# EAGLE library part WE-DS_216612013 (library wurth_elektronik_passive_rev16d)
WE-DS D-SUB-Filter Connectors Bent 90° Characteristics Standard type filtered with 1000 pF High attenuation of more than 40 dB @ 180 MHz Choice of earthing metal sheet or high speed earthing clip Rated voltage: 100 VDC Rated current @ 20 ºC: 5 A Withstand voltage: 250 VRMS Insulation resistance: min. 1000 MΩ Operating temperature: –55 ºC to +125 ºC Applications Filtering of interfaces External connection to -printer -sensor -display <http://katalog.we-online.de/media/images/v2/Family_d-sub_filter_90_abgewinkelt.jpg> Details see: http://katalog.we-online.de/en/pbs/D-SUB-FILTER-BENT90 2016 (C) Wurth Elektronik
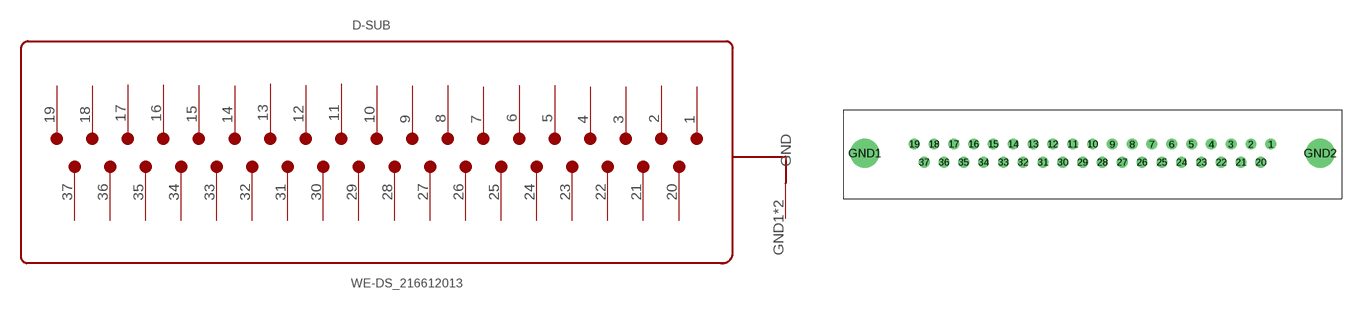
[diagram p239: symbol with the pads of WE-DS_2166120X3; footprint WE-DS_2166120X3]

Designator prefix D-SUB

## WE-DS_216612013  [WE-DS_2166120X3]
1  19
2  18
3  17
4  16
5  15
6  14
7  13
8  12
9  11
10  10
11  9
12  8
13  7
14  6
15  5
16  4
17  3
18  2
19  1
20  37
21  36
22  35
23  34
24  33
25  32
26  31
27  30
28  29
29  28
30  27
31  26
32  25
33  24
34  23
35  22
36  21
37  20
GND1  GND
GND2  GND

## Footprint WE-DS_2166120X3 (pad centres in mm)
drill 1: 1 24.84,1.27; 2 22.1,1.27; 3 19.33,1.27; 4 16.56,1.27; 5 13.82,1.27; 6 11.05,1.27; 7 8.28,1.27; 8 5.54,1.27; 9 2.77,1.27; 10 0,1.27; 11 -2.77,1.27; 12 -5.54,1.27; 13 -8.28,1.27; 14 -11.05,1.27; 15 -13.82,1.27; 16 -16.56,1.27; 17 -19.33,1.27; 18 -22.1,1.27; 19 -24.84,1.27; 20 23.47,-1.27; 21 20.7,-1.27; 22 17.96,-1.27; 23 15.19,-1.27; 24 12.42,-1.27; 25 9.68,-1.27; 26 6.91,-1.27; 27 4.14,-1.27; 28 1.38,-1.27; 29 -1.38,-1.27; 30 -4.14,-1.27; 31 -6.91,-1.27; 32 -9.68,-1.27; 33 -12.42,-1.27; 34 -15.19,-1.27; 35 -17.96,-1.27; 36 -20.7,-1.27; 37 -23.47,-1.27
drill 3: GND1 -31.75,0; GND2 31.75,0